# Altium schematic symbol library CC0201KRX5R5BB104.SchLib: 1 symbol
Pins are listed as number, name and electrical type; pins without a type are passive.

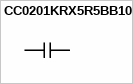
[diagram p0: symbol CC0201KRX5R5BB104]

## CC0201KRX5R5BB104
designator ?
Cap Ceramic 0.1uF 6.3VDC X5R 10% SMD 0201 Paper T/R
pins: 1, 2